# EAGLE library part TP4057 (library micwl)
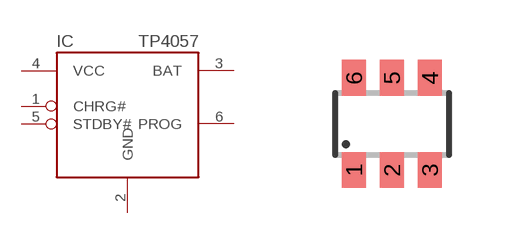
[diagram p3: symbol with the pads of SOT23-6; footprint SOT23-6]

Designator prefix IC

## TP4057  [SOT23-6]
1  CHRG#  out
2  GND  pwr
3  BAT  out
4  VCC
5  STDBY#  out
6  PROG  in

## Footprint SOT23-6 (pad centres in mm)
Small Outline Transistor 6 lead
smd 0.6 x 0.9: 1 -0.95,-1.15; 2 0,-1.15; 3 0.95,-1.15; 4 0.95,1.15; 5 0,1.15; 6 -0.95,1.15